# Altium footprint library PcbLib1.PcbLib: 2 footprints
Each footprint in its own frame and in the unit in brackets; x right, y up, seen from the top. Pads: shape width x height; smd on the part's side, far side on the other; paste and mask are expansions set on the pad; w line width, h text height; cw(c..) or ccw(c..) is an arc to the next point about the centre after c.
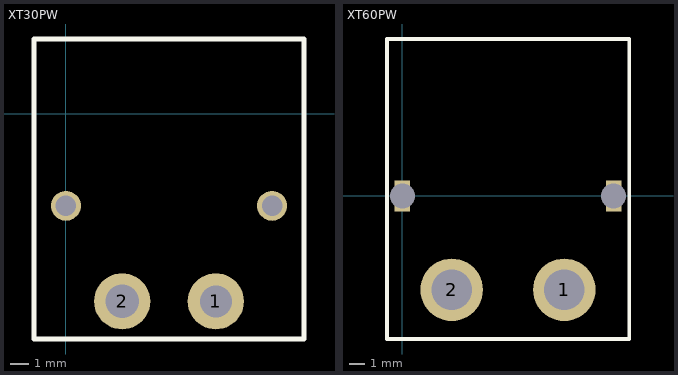
[diagram p0: the footprints below, top view; thin cyan lines are the x and y axes]

## XT30PW [mm] "xt30接头 卧式"
pads (4):
  round 3 hole 1.7: 1(8,-10)
  round 3 hole 1.8: 2(3,-10)
  round 1.6 hole 1.1: ""(0,-4.9) ""(11,-4.9)
Top Overlay:
  lines w0.254: -1.7,3.992 -1.7,-12.008 12.7,-12.008 12.7,4 -1.7,4

## XT60PW [mm] "公头 卧式"
pads (4):
  round 4 hole 2.6: 1(10.35,-6) 2(3.15,-6)
  rect 1x2 hole 1.6 square: ""(0,0) ""(13.5,0)
Top Overlay:
  lines w0.254: -0.984,-9.144 14.5,-9.144 14.5,10.033 -0.984,10.033 -0.984,-9.144